# EAGLE library part MICRO_SDCARD (library MICROSDCARD)
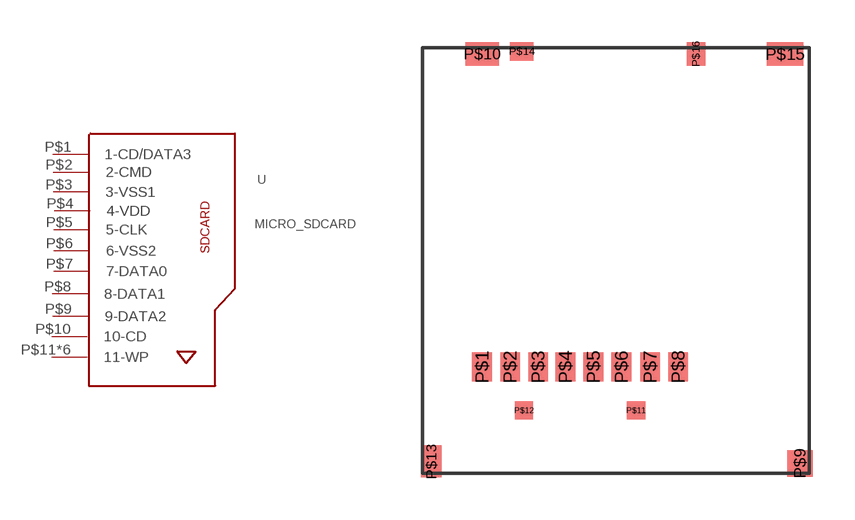
[diagram p0: symbol with the pads of SDCARD; footprint SDCARD]

Designator prefix -

## MICRO_SDCARD  [SDCARD]
P$1  1-CD/DATA3
P$2  2-CMD
P$3  3-VSS1
P$4  4-VDD
P$5  5-CLK
P$6  6-VSS2
P$7  7-DATA0
P$8  8-DATA1
P$9  9-DATA2
P$10  10-CD
P$11  11-WP
P$12  11-WP
P$13  11-WP
P$14  11-WP
P$15  11-WP
P$16  11-WP

## Footprint SDCARD (pad centres in mm)
smd 0.7 x 1.05: P$1 -4.775,3.8; P$2 -3.775,3.8; P$3 -2.775,3.8; P$4 -1.8,3.8; P$5 -0.8,3.8; P$6 0.2,3.8; P$7 1.225,3.8; P$8 2.225,3.8
smd 0.9 x 0.95: P$9 6.575,0.35
smd 1.2 x 0.85: P$10 -4.765,14.975
smd 0.65 x 0.65: P$11 0.725,2.25; P$12 -3.275,2.25
smd 0.745 x 1.15: P$13 -6.588,0.425
smd 0.85 x 0.65: P$14 -3.357,15.065
smd 1.3 x 0.85: P$15 6.045,14.975
smd 0.65 x 0.85: P$16 2.865,14.975